# Altium footprint library A4988.PcbLib: 1 footprints
Each footprint in its own frame and in the unit in brackets; x right, y up, seen from the top. Pads: shape width x height; smd on the part's side, far side on the other; paste and mask are expansions set on the pad; w line width, h text height; cw(c..) or ccw(c..) is an arc to the next point about the centre after c.
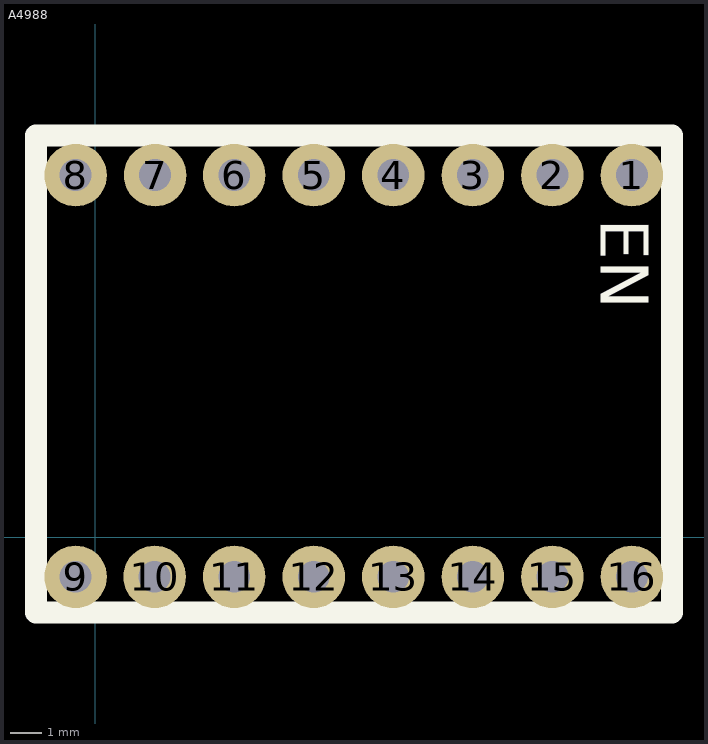
[diagram p0: the footprint, top view; thin cyan lines are the x and y axes]

## A4988 [mm] "A4988"
pads (16):
  round 2 hole 1.016: 1(17.129,11.557) 2(14.589,11.557) 3(12.049,11.557) 4(9.509,11.557) 5(6.969,11.557) 6(4.429,11.557) 7(1.905,11.557) 8(-0.635,11.557) 9(-0.635,-1.27) 10(1.889,-1.27) 11(4.429,-1.27) 12(6.969,-1.27) 13(9.509,-1.27) 14(12.049,-1.27) 15(14.589,-1.27) 16(17.129,-1.27)
Top Overlay:
  lines w0.7: -1.905,-2.413 18.415,-2.413 18.415,12.827 -1.905,12.827 -1.905,-2.413
  text "EN" at 16.129,10.16 h1.52
3D body "A4988-1.STEP": height 9.46, standoff -6.51, extent -1.905,-2.413 18.415,12.827